# Altium integrated library 6-146276-6.IntLib: 1 symbol
Pins are listed as number, name and electrical type; pins without a type are passive.

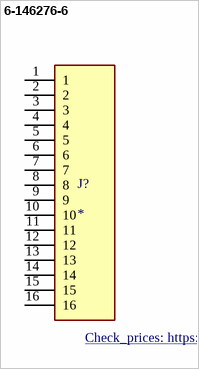
[diagram p0: symbol 6-146276-6]

## 6-146276-6
designator J?
16 MODII HDR SRST B/A .100CL; Centerline_Pitch: 2.54 mm[.1 in]; Number_of_Positions: 16; Product_Type: Connector; MF: TE Connectivity; MP: 6-146276-6; SnapEDA_Link: https://www.snapeda.com/parts/6-146276-6/TE%20Connectivity/view-part/1438677/?ref=snap; Price: None; Purchase-URL: https://pricing.snapeda.com/search/part/6-146276-6/?ref=eda; Value: *; Package: None; EU_RoHS_Compliance: Compliant; Availability: Warning; Check_prices: https://www.snapeda.com/parts/6-146276-6/TE%20Connectivity/view-part/1438677/?ref=eda
footprint TE_6-146276-6
pins: 1, 2, 3, 4, 5, 6, 7, 8, 9, 10, 11, 12, 13, 14, 15, 16